# Altium schematic symbol library Molex Mini-Fit Jr 1x2.SchLib: 1 symbol
Pins are listed as number, name and electrical type; pins without a type are passive.

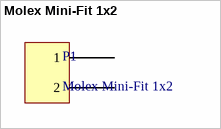
[diagram p0: symbol Molex Mini-Fit 1x2]

## Molex Mini-Fit 1x2
designator P1
footprint Molex Mini-Fit Jr 2x1
pins: 1, 2